# Altium footprint library DG332K-5.0.PcbLib: 1 footprints
Each footprint in its own frame and in the unit in brackets; x right, y up, seen from the top. Pads: shape width x height; smd on the part's side, far side on the other; paste and mask are expansions set on the pad; w line width, h text height; cw(c..) or ccw(c..) is an arc to the next point about the centre after c.
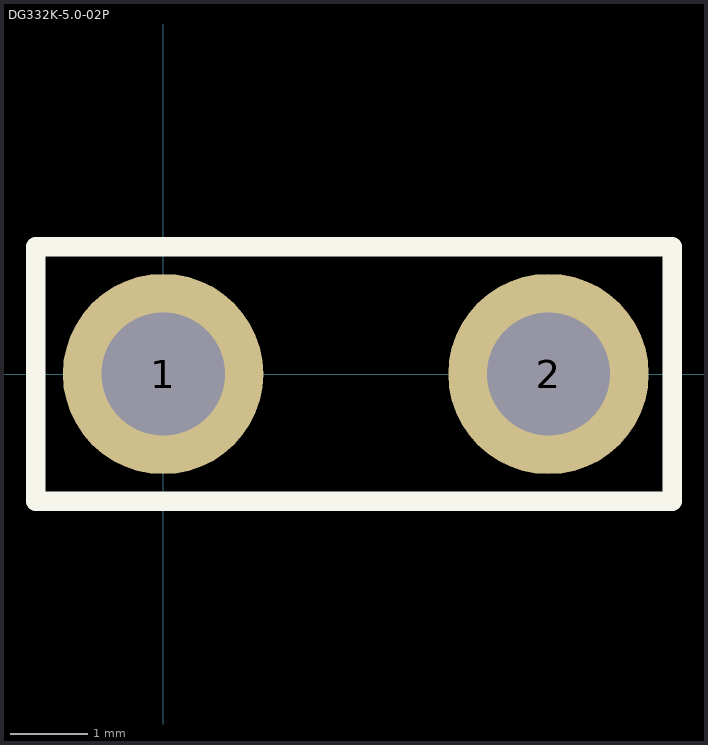
[diagram p0: the footprint, top view; thin cyan lines are the x and y axes]

## DG332K-5.0-02P [mm]
pads (2):
  round 2.6 hole 1.6: 1(0,0) 2(5,0)
Top Overlay:
  lines w0.254: -1.651,-1.651 -1.651,1.651 6.604,1.651 6.604,-1.651 -1.651,-1.651
3D body "Borna - DG332K-5.0-02P-00A.stp": height 10.81, standoff -3.49, extent -2.54,-8.986 8.16,4.414